# EAGLE library part NP-DUAL (library MOSFET)
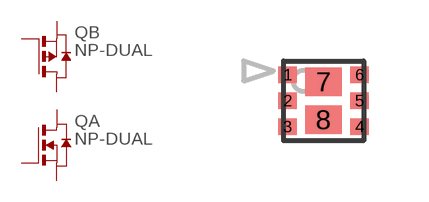
[diagram p1: symbol with the pads of TDFN-6-2X2; footprint TDFN-6-2X2]

Designator prefix Q; gates A=N_MOSFET B=P_MOSFET

## NP-DUAL_TSM2537CQ (MARK: 2537; MF: Taiwan Semiconductor; MPN: TSM2537CQ RFG)  [TDFN-6-2X2]
1  A:S  pas
2  A:G  pas
3  B:D  pas
4  B:S  pas
5  B:G  pas
6  A:D  pas
7  A:D  pas
8  B:D  pas

## Footprint TDFN-6-2X2 (pad centres in mm)
smd 0.46 x 0.42: 1 -0.9,0.65; 2 -0.9,0; 3 -0.9,-0.65; 4 0.9,-0.65; 5 0.9,0; 6 0.9,0.65
smd 0.92 x 0.71: 7 0,0.475; 8 0,-0.475